# Altium footprint library TDK VLF504010MT.PCBLIB: 1 footprints
Each footprint in its own frame and in the unit in brackets; x right, y up, seen from the top. Pads: shape width x height; smd on the part's side, far side on the other; paste and mask are expansions set on the pad; w line width, h text height; cw(c..) or ccw(c..) is an arc to the next point about the centre after c.
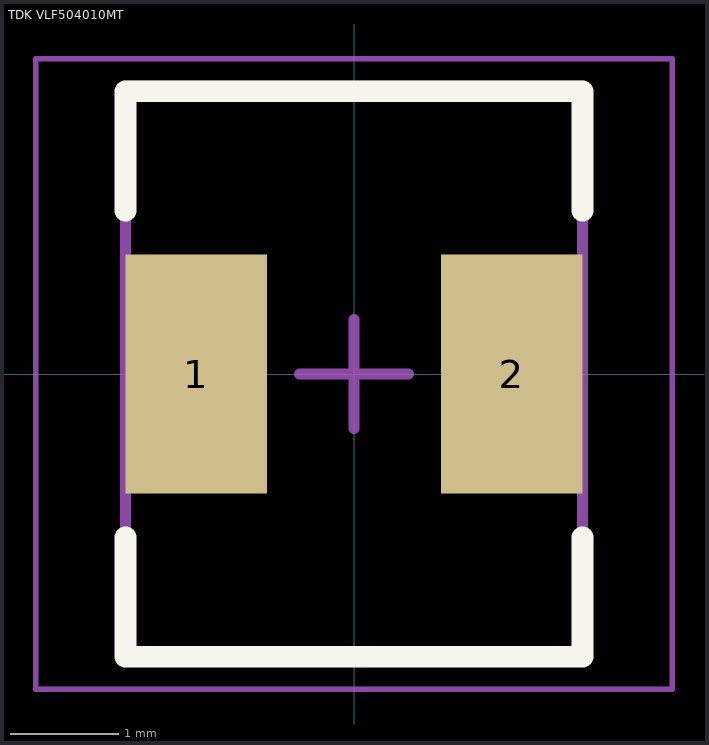
[diagram p0: the footprint, top view; thin cyan lines are the x and y axes]

## TDK VLF504010MT [mm] "Wire Wound Inductor, 2-Leads, Body 4.00x5.00mm, IPC Medium Density"
height 1
pads (2):
  rect 1.3x2.2 smd: 1(-1.45,0) 2(1.45,0)
Top Overlay:
  lines w0.2: -2.1,-1.5 -2.1,-2.6 2.1,-2.6 2.1,-1.5 ; -2.1,1.5 -2.1,2.6 2.1,2.6 2.1,1.5
Mechanical 13:
  lines w0.1: -2.1,-2.6 -2.1,2.65 2.1,2.65 2.1,-2.6 -2.1,-2.6
Mechanical 15:
  lines w0.05: -2.925,-2.9 -2.925,2.9 2.925,2.9 2.925,-2.9 -2.925,-2.9
  lines w0.1: -0.5,0 0.5,0 ; 0,-0.5 0,0.5
3D body "VLF504010MT.STEP": height 1, standoff 0, extent -2,-2.5 2,2.5